# EAGLE library part 5103310-7 (library Tyco_By_element14_Batch_1)
WIRE-BOARD CONN, HEADER, 16POS
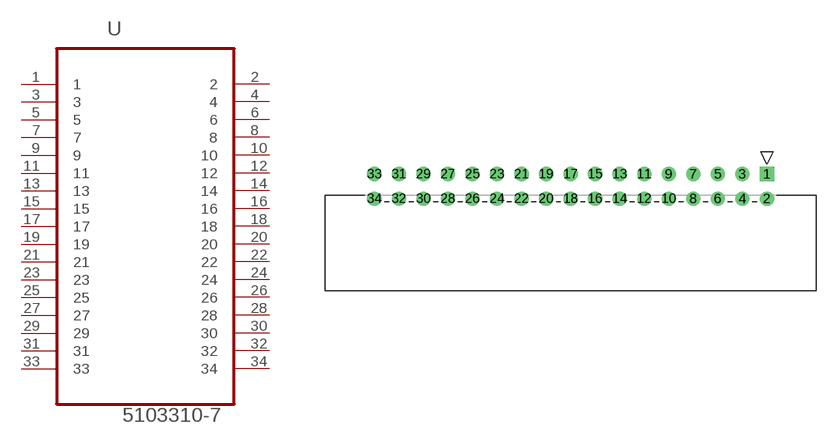
[diagram p110: symbol with the pads of TYCO_5103310-7; footprint TYCO_5103310-7]

Designator prefix U

## 5103310-7 (MPN: 5103310-7; OC_FARNELL: 1374913; OC_NEWARK: 39M4091; PACKAGE: 34 WAY HEADER; SUPPLIER: TycoElectronics)  [TYCO_5103310-7]
1  1  pas
2  2  pas
3  3  pas
4  4  pas
5  5  pas
6  6  pas
7  7  pas
8  8  pas
9  9  pas
10  10  pas
11  11  pas
12  12  pas
13  13  pas
14  14  pas
15  15  pas
16  16  pas
17  17  pas
18  18  pas
19  19  pas
20  20  pas
21  21  pas
22  22  pas
23  23  pas
24  24  pas
25  25  pas
26  26  pas
27  27  pas
28  28  pas
29  29  pas
30  30  pas
31  31  pas
32  32  pas
33  33  pas
34  34  pas

## Footprint TYCO_5103310-7 (pad centres in mm)
drill 0.965 square: 1 0,5.08
drill 0.965: 2 0,2.54; 3 -2.54,5.08; 4 -2.54,2.54; 5 -5.08,5.08; 6 -5.08,2.54; 7 -7.62,5.08; 8 -7.62,2.54; 9 -10.16,5.08; 10 -10.16,2.54; 11 -12.7,5.08; 12 -12.7,2.54; 13 -15.24,5.08; 14 -15.24,2.54; 15 -17.78,5.08; 16 -17.78,2.54; 17 -20.32,5.08; 18 -20.32,2.54; 19 -22.86,5.08; 20 -22.86,2.54; 21 -25.4,5.08; 22 -25.4,2.54; 23 -27.94,5.08; 24 -27.94,2.54; 25 -30.48,5.08; 26 -30.48,2.54; 27 -33.02,5.08; 28 -33.02,2.54; 29 -35.56,5.08; 30 -35.56,2.54; 31 -38.1,5.08; 32 -38.1,2.54; 33 -40.64,5.08; 34 -40.64,2.54